# Altium footprint library mypcblib.PcbLib: 128 footprints (part 4 of 8)
Each footprint in its own frame and in the unit in brackets; x right, y up, seen from the top. Pads: shape width x height; smd on the part's side, far side on the other; paste and mask are expansions set on the pad; w line width, h text height; cw(c..) or ccw(c..) is an arc to the next point about the centre after c.
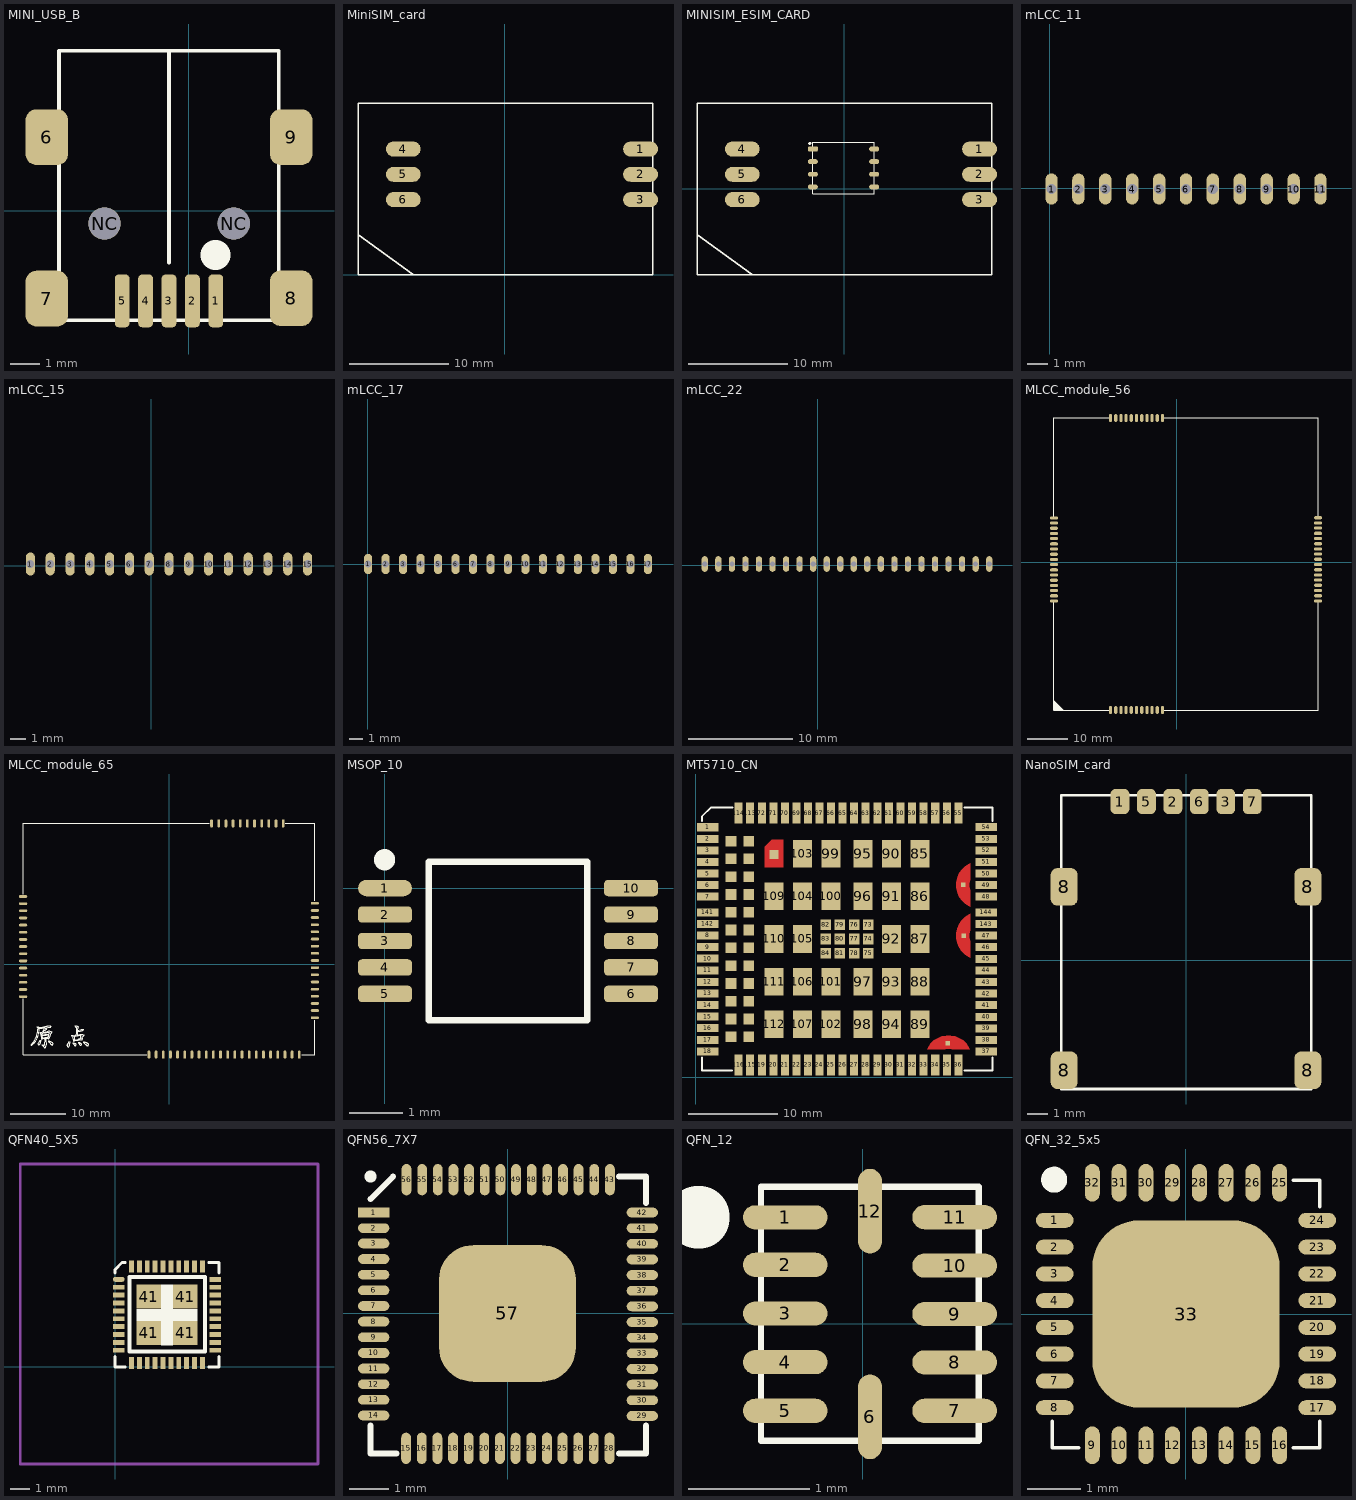
[diagram p3: the footprints below, top view; thin cyan lines are the x and y axes]

## MINI_USB_B [mm]
pads (11):
  rrect50% 0.5x1.8 smd: 1(0.92,-3.07) 2(0.12,-3.07) 3(-0.68,-3.07) 4(-1.48,-3.07) 5(-2.28,-3.07)
  rrect50% 1.45x1.9 smd: 6(-4.85,2.52) 7(-4.85,-2.99) 8(3.49,-2.98) 9(3.49,2.52)
  round 1.1 hole 1.1: NC(-2.88,-0.43) NC(1.53,-0.43)
Top Overlay:
  circle w1: c0.91,-1.5 r0.01
  circle w0.127: c-2.882,-0.431 r0.45
  circle w0.127: c1.518,-0.431 r0.45
  lines w0.127: -0.682,-1.77 -0.682,5.469 ; -4.432,-3.731 -4.432,5.469 3.068,5.469 3.068,-3.731 -4.432,-3.731
3D body "User Library-usb_mini_smd.STEP": height 4.14, standoff -0.95, extent -5.63,-3.71 4.27,5.49

## MiniSIM_card [mm]
pads (6):
  oval 3.5x1.5 smd: 1(13.652,12.636) 2(13.652,10.096) 3(13.652,7.556) 4(-10.16,12.636) 5(-10.16,10.096) 6(-10.16,7.556)
Top Overlay:
  lines w0.127: -14.707,4.052 -9.207,0.064 ; -14.707,0.025 14.893,0.025 14.893,17.225 -14.707,17.225 -14.707,0.025

## MINISIM_ESIM_CARD [mm]
pads (14):
  oval 1x0.5 smd: 1(2.98,4) 2(2.98,2.73) 3(2.98,1.46) 6(-3.17,1.46) NC(-3.17,0.19) NC(-3.17,2.73) NC(2.98,0.19)
  oval 3.5x1.5 smd: 1(13.56,3.991) 2(13.56,1.451) 3(13.56,-1.089) 4(-10.253,3.991) 5(-10.253,1.451) 6(-10.253,-1.089)
  rrect50% 1x0.5 smd: 4(-3.17,4)
Top Overlay:
  circle w0.127: c-3.48,4.56 r0.085
  lines w0.08: -3.17,-0.48 2.98,-0.48 2.98,4.67 -3.17,4.67 -3.17,-0.48
  lines w0.127: -14.8,-4.593 -9.3,-8.582 ; -14.8,-8.62 14.8,-8.62 14.8,8.58 -14.8,8.58 -14.8,-8.62

## mLCC_11 [mm]
pads (11):
  oval 0.6x1.5 hole 0.5: 1(0.09,-0.04) 2(1.39,-0.04) 3(2.69,-0.04) 4(3.99,-0.04) 5(5.29,-0.04) 6(6.59,-0.04) 7(7.89,-0.04) 8(9.19,-0.04) 9(10.49,-0.04) 10(11.79,-0.04) 11(13.09,-0.04)

## mLCC_15 [mm]
pads (15):
  oval 0.6x1.5 hole 0.5: 1(-7.94,0.11) 2(-6.64,0.11) 3(-5.34,0.11) 4(-4.04,0.11) 5(-2.74,0.11) 6(-1.44,0.11) 7(-0.14,0.11) 8(1.16,0.11) 9(2.46,0.11) 10(3.76,0.11) 11(5.06,0.11) 12(6.36,0.11) 13(7.66,0.11) 14(8.96,0.11) 15(10.26,0.11)

## mLCC_17 [mm]
pads (17):
  oval 0.6x1.5 hole 0.5: 1(0.01,0.02) 2(1.31,0.02) 3(2.61,0.02) 4(3.91,0.02) 5(5.21,0.02) 6(6.51,0.02) 7(7.81,0.02) 8(9.11,0.02) 9(10.41,0.02) 10(11.71,0.02) 11(13.01,0.02) 12(14.31,0.02) 13(15.61,0.02) 14(16.91,0.02) 15(18.21,0.02) 16(19.51,0.02) 17(20.81,0.02)

## mLCC_22 [mm]
pads (22):
  oval 0.6x1.5 hole 0.5: 1(-10.85,0.13) 2(-9.55,0.13) 3(-8.25,0.13) 4(-6.95,0.13) 5(-5.65,0.13) 6(-4.35,0.13) 7(-3.05,0.13) 8(-1.75,0.13) 9(-0.45,0.13) 10(0.85,0.13) 11(2.15,0.13) 12(3.45,0.13) 13(4.75,0.13) 14(6.05,0.13) 15(7.35,0.13) 16(8.65,0.13) 17(9.95,0.13) 18(11.25,0.13) 19(12.55,0.13) 20(13.85,0.13) 21(15.15,0.13) 22(16.45,0.13)

## MLCC_module_56 [mm]
pads (56):
  oval 0.8x2 smd: 1(-16.565,-36.976) 2(-15.265,-36.976) 3(-13.965,-36.976) 4(-12.665,-36.976) 5(-11.365,-36.976) 6(-10.065,-36.976) 7(-8.765,-36.976) 8(-7.465,-36.976) 9(-6.165,-36.976) 10(-4.865,-36.976) 11(-3.565,-36.976) 29(-3.565,36.049) 30(-4.865,36.049) 31(-6.165,36.049) 32(-7.465,36.049) 33(-8.765,36.049) 34(-10.065,36.049) 35(-11.365,36.049) 36(-12.665,36.049) 37(-13.965,36.049) 38(-15.265,36.049) 39(-16.565,36.049)
  oval 2x0.8 smd: 12(35.334,-9.694) 13(35.334,-8.394) 14(35.334,-7.094) 15(35.334,-5.794) 16(35.334,-4.494) 17(35.334,-3.194) 18(35.334,-1.894) 19(35.334,-0.594) 20(35.334,0.706) 21(35.334,2.006) 22(35.334,3.306) 23(35.334,4.606) 24(35.334,5.905) 25(35.334,7.205) 26(35.334,8.505) 27(35.334,9.805) 28(35.334,11.105) 40(-30.706,11.075) 41(-30.706,9.775) 42(-30.706,8.475) 43(-30.706,7.175) 44(-30.706,5.876) 45(-30.706,4.576) 46(-30.706,3.276) 47(-30.706,1.976) 48(-30.706,0.66) 49(-30.706,-0.624) 50(-30.706,-1.924) 51(-30.706,-3.224) 52(-30.706,-4.524) 53(-30.706,-5.824) 54(-30.706,-7.124) 55(-30.706,-8.424) 56(-30.706,-9.724)
Top Overlay:
  region: -30.706,-34.476 -30.706,-36.976 -28.206,-36.976
  lines w0.127: -30.706,-9.974 -30.706,-36.976 -16.815,-36.976 ; -30.706,11.325 -30.706,36.049 -16.815,36.049 ; -3.316,-36.976 35.334,-36.976 35.334,-9.944 ; -3.316,36.049 35.334,36.049 35.334,11.355

## MLCC_module_65 [mm]
pads (65):
  oval 0.5x1.5 smd: 1(-3.66,-16.4) 2(-2.36,-16.4) 3(-1.06,-16.4) 4(0.24,-16.4) 5(1.54,-16.4) 6(2.84,-16.4) 7(4.14,-16.4) 8(5.44,-16.4) 9(6.74,-16.4) 10(8.04,-16.4) 11(9.34,-16.4) 12(10.64,-16.4) 13(11.94,-16.4) 14(13.24,-16.4) 15(14.54,-16.4) 16(15.84,-16.4) 17(17.14,-16.4) 18(18.44,-16.4) 19(19.74,-16.4) 20(21.04,-16.4) 21(22.34,-16.4) 22(23.64,-16.4) 40(20.72,25.59) 41(19.42,25.59) 42(18.12,25.59) 43(16.82,25.59) 44(15.52,25.59) 45(14.22,25.59) 46(12.92,25.59) 47(11.62,25.59) 48(10.32,25.59) 49(9.02,25.59) 50(7.72,25.59)
  oval 1.5x0.5 smd: 23(26.48,-9.71) 24(26.48,-8.41) 25(26.48,-7.11) 26(26.48,-5.81) 27(26.48,-4.51) 28(26.48,-3.21) 29(26.48,-1.91) 30(26.48,-0.61) 31(26.48,0.69) 32(26.48,1.99) 33(26.48,3.29) 34(26.48,4.59) 35(26.48,5.89) 36(26.48,7.19) 37(26.48,8.49) 38(26.48,9.79) 39(26.48,11.09) 51(-26.51,12.32) 52(-26.51,11.02) 53(-26.51,9.72) 54(-26.51,8.42) 55(-26.51,7.12) 56(-26.51,5.82) 57(-26.51,4.52) 58(-26.51,3.22) 59(-26.51,1.92) 60(-26.51,0.62) 61(-26.51,-0.68) 62(-26.51,-1.98) 63(-26.51,-3.28) 64(-26.51,-4.58) 65(-26.51,-5.88)
Top Overlay:
  drawing of 965 lines, arcs and shapes, not listed

## MSOP_10 [mm]
pads (10):
  oval 1.02x0.31 smd mask+0.051: 1(0,0)
  rrect50% 1.02x0.31 smd mask+0.051: 2(0,-0.5) 3(0,-1) 4(0,-1.5) 5(0,-2) 6(4.65,-2) 7(4.65,-1.5) 8(4.65,-1) 9(4.65,-0.5) 10(4.65,0)
Top Overlay:
  circle w0.3: c-0.006,0.535 r0.05
  lines w0.127: 0.825,-2.5 3.825,-2.5 3.825,0.5 0.825,0.5 0.825,-2.5

## MT5710_CN [mm]
pads (147):
  rect 2.4x0.9 smd mask+0.127: 1(1.346,28.092) 2(1.346,26.795) 3(1.346,25.492) 4(1.346,24.189) 5(1.346,22.886) 6(1.346,21.583) 7(1.346,20.295) 8(1.346,15.926) 9(1.346,14.623) 10(1.346,13.32) 11(1.346,12.017) 12(1.346,10.714) 13(1.346,9.411) 14(1.346,8.108) 15(1.346,6.805) 16(1.346,5.502) 17(1.346,4.199) 18(1.346,2.896) 37(32.639,2.896) 38(32.639,4.184) 39(32.639,5.487) 40(32.639,6.79) 41(32.639,8.093) 42(32.639,9.396) 43(32.639,10.699) 44(32.639,12.002) 45(32.639,13.305) 46(32.639,14.608) 47(32.639,15.911) 48(32.664,20.295) 49(32.664,21.583) 50(32.664,22.886) 51(32.664,24.189) 52(32.664,25.492) 53(32.664,26.795) 54(32.664,28.098) 141(1.346,18.517) 142(1.346,17.229) 143(32.639,17.214) 144(32.639,18.517)
  rect 0.9x2.4 smd mask+0.127: 19(7.427,1.372) 20(8.73,1.372) 21(10.033,1.372) 22(11.336,1.372) 23(12.624,1.372) 24(13.894,1.372) 25(15.197,1.372) 26(16.5,1.372) 27(17.803,1.372) 28(19.106,1.372) 29(20.409,1.372) 30(21.712,1.372) 31(23.015,1.372) 32(24.318,1.372) 33(25.621,1.372) 34(26.924,1.372) 35(28.227,1.372) 36(29.515,1.372) 55(29.515,29.693) 56(28.227,29.693) 57(26.924,29.693) 58(25.621,29.693) 59(24.318,29.693) 60(23.015,29.693) 61(21.712,29.693) 62(20.409,29.693) 63(19.106,29.693) 64(17.803,29.693) 65(16.5,29.693) 66(15.197,29.693) 67(13.894,29.693) 68(12.624,29.693) 69(11.336,29.693) 70(10.033,29.693) 71(8.73,29.693) 72(7.427,29.693) 113(6.124,29.693) 114(4.821,29.693) 115(6.124,1.372) 116(4.821,1.372)
  rect 1.2x1.2 smd mask+0.076: 73(19.403,17.136) 74(19.403,15.536) 75(19.403,13.936) 76(17.803,17.136) 77(17.803,15.536) 78(17.803,13.936) 79(16.203,17.136) 80(16.203,15.536) 81(16.203,13.936) 82(14.603,17.136) 83(14.603,15.536) 84(14.603,13.936)
  rect 2.1x3.1 smd mask+0.127: 85(25.203,25.136) 86(25.203,20.336) 87(25.203,15.536) 88(25.203,10.736) 89(25.203,5.936) 90(22.003,25.136) 91(22.003,20.336) 92(22.003,15.536) 93(22.003,10.736) 94(22.003,5.936) 95(18.803,25.136) 96(18.803,20.336) 97(18.803,10.736) 98(18.803,5.936) 99(15.203,25.136) 100(15.203,20.336) 101(15.203,10.736) 102(15.203,5.936) 103(12.003,25.136) 104(12.003,20.336) 105(12.003,15.536) 106(12.003,10.736) 107(12.003,5.936) 109(8.803,20.336) 110(8.803,15.536) 111(8.803,10.736) 112(8.803,5.936)
  rect 1x1 smd mask+0.127: 108(8.814,25.044)
  rect 1.2x1.2 smd mask+0.127: 117(5.965,26.536) 118(5.965,24.536) 119(5.965,22.536) 120(5.965,20.536) 121(5.965,18.536) 122(5.965,16.536) 123(5.965,14.536) 124(5.965,12.536) 125(5.965,10.536) 126(5.965,8.536) 127(5.965,6.536) 128(5.965,4.536) 129(3.965,26.536) 130(3.965,24.536) 131(3.965,22.536) 132(3.965,20.536) 133(3.965,18.536) 134(3.965,16.536) 135(3.965,14.536) 136(3.965,12.536) 137(3.965,10.536) 138(3.965,8.536) 139(3.965,6.536) 140(3.965,4.536)
  rect 0.5x0.5 smd mask+0.127: 145(28.346,3.835) 145(30.074,21.641) 145(30.15,15.875)
Top Layer:
  region: 30.825,3.159 30.717,3.385 30.419,3.79 30.052,4.133 29.627,4.401 29.16,4.585 28.666,4.678 28.164,4.678 27.671,4.585 27.203,4.401 26.778,4.133 26.411,3.79 26.114,3.385 26.006,3.159 28.073,3.159 28.157,3.18 28.329,3.205 28.502,3.205 28.673,3.18 28.757,3.159
  region: 30.88,24.049 30.88,22.161 30.82,22.028 30.749,21.745 30.749,21.453 30.82,21.169 30.88,21.036 30.88,19.148 30.642,19.251 30.214,19.545 29.851,19.916 29.566,20.349 29.37,20.83 29.27,21.339 29.27,21.858 29.37,22.367 29.566,22.848 29.851,23.282 30.214,23.652 30.642,23.946
  region: 30.88,18.349 30.88,16.461 30.82,16.328 30.749,16.045 30.749,15.753 30.82,15.469 30.88,15.336 30.88,13.448 30.642,13.551 30.214,13.845 29.851,14.216 29.566,14.649 29.37,15.13 29.27,15.639 29.27,16.158 29.37,16.667 29.566,17.148 29.851,17.582 30.214,17.952 30.642,18.246
  region: 9.853,26.686 8.553,26.686 7.753,25.886 7.753,23.586 9.853,23.586
Top Overlay:
  lines w0.203: 0.711,2.21 0.711,0.737 4.115,0.737 ; 0.711,28.778 0.711,29.312 1.727,30.328 4.14,30.328 ; 30.201,30.328 33.35,30.328 33.35,28.804 ; 30.226,0.737 33.35,0.737 ; 33.35,2.21 33.35,0.737 ; 33.35,0.737 33.35,0.737
Top Paste:
  region: 30.825,3.159 30.717,3.385 30.419,3.79 30.052,4.133 29.627,4.401 29.16,4.585 28.666,4.678 28.164,4.678 27.671,4.585 27.203,4.401 26.778,4.133 26.411,3.79 26.114,3.385 26.006,3.159 28.073,3.159 28.157,3.18 28.329,3.205 28.502,3.205 28.673,3.18 28.757,3.159
  region: 30.88,18.349 30.88,16.461 30.82,16.328 30.749,16.045 30.749,15.753 30.82,15.469 30.88,15.336 30.88,13.448 30.642,13.551 30.214,13.845 29.851,14.216 29.566,14.649 29.37,15.13 29.27,15.639 29.27,16.158 29.37,16.667 29.566,17.148 29.851,17.582 30.214,17.952 30.642,18.246
  region: 30.88,24.049 30.88,22.161 30.82,22.028 30.749,21.745 30.749,21.453 30.82,21.169 30.88,21.036 30.88,19.148 30.642,19.251 30.214,19.545 29.851,19.916 29.566,20.349 29.37,20.83 29.27,21.339 29.27,21.858 29.37,22.367 29.566,22.848 29.851,23.282 30.214,23.652 30.642,23.946
  region: 9.853,26.686 8.553,26.686 7.753,25.886 7.753,23.586 9.853,23.586

## NanoSIM_card [mm]
pads (10):
  rrect50% 0.9x1.2 smd: 1(-3.176,7.614) 2(-0.636,7.614) 3(1.904,7.614) 5(-1.906,7.614) 6(0.634,7.614) 7(3.174,7.614)
  rrect50% 1.3x1.8 smd: 8(-5.856,-5.286) 8(-5.856,3.514) 8(5.844,-5.286) 8(5.844,3.514)
Top Overlay:
  lines w0.127: -6.001,-6.187 -6.001,7.913 5.998,7.913 5.998,-6.187 -6.001,-6.187

## QFN40_5X5 [mm]
pads (44):
  oval 0.6x0.25 smd mask+0.102: 1(0.177,4.427)
  rect 0.6x0.25 smd mask+0.102: 2(0.177,4.027) 3(0.177,3.627) 4(0.177,3.227) 5(0.177,2.827) 6(0.177,2.427) 7(0.177,2.027) 8(0.177,1.627) 9(0.177,1.227) 10(0.177,0.827) 21(5.077,0.827) 22(5.077,1.227) 23(5.077,1.627) 24(5.077,2.027) 25(5.077,2.427) 26(5.077,2.827) 27(5.077,3.227) 28(5.077,3.627) 29(5.077,4.027) 30(5.077,4.427)
  rect 0.25x0.6 smd mask+0.102: 11(0.827,0.177) 12(1.227,0.177) 13(1.627,0.177) 14(2.027,0.177) 15(2.427,0.177) 16(2.827,0.177) 17(3.227,0.177) 18(3.627,0.177) 19(4.027,0.177) 20(4.427,0.177) 31(4.427,5.077) 32(4.027,5.077) 33(3.627,5.077) 34(3.227,5.077) 35(2.827,5.077) 36(2.427,5.077) 37(2.027,5.077) 38(1.627,5.077) 39(1.227,5.077) 40(0.827,5.077)
  rect 1.233x1.233 smd mask+0: 41(1.702,1.702) 41(1.702,3.552) 41(3.552,1.702) 41(3.552,3.552)
Top Overlay:
  region: 2.921,4.166 2.921,2.921 4.166,2.921 4.166,2.337 2.921,2.337 2.921,1.092 2.337,1.092 2.337,2.337 1.092,2.337 1.092,2.921 2.337,2.921 2.337,4.166
  lines w0.15: -0.023,0.508 -0.023,-0.023 0.508,-0.023 ; -0.023,4.75 -0.023,4.905 0.349,5.277 0.508,5.277 ; 4.75,-0.023 5.277,-0.023 5.277,0.508 ; 4.75,5.277 5.277,5.277 5.277,4.75
  lines w0.203: 0.711,0.762 0.711,4.547 4.547,4.547 4.547,0.762 0.711,0.762
Mechanical 15:
  lines w0.152: -4.826,-4.953 -4.826,10.287 10.287,10.287 10.287,-4.953 -4.826,-4.953

## QFN56_7X7 [mm]
pads (57):
  rect 0.8x0.25 smd mask+0.038: 1(-3.43,2.58)
  oval 0.8x0.25 smd mask+0.038: 2(-3.43,2.18) 3(-3.43,1.79) 4(-3.43,1.39) 5(-3.43,0.99) 6(-3.43,0.59) 7(-3.43,0.19) 8(-3.43,-0.21) 9(-3.43,-0.61) 10(-3.43,-1.01) 11(-3.43,-1.41) 12(-3.43,-1.81) 13(-3.43,-2.21) 14(-3.43,-2.61) 29(3.44,-2.62) 30(3.44,-2.22) 31(3.44,-1.82) 32(3.44,-1.42) 33(3.44,-1.02) 34(3.44,-0.62) 35(3.44,-0.22) 36(3.44,0.18) 37(3.44,0.58) 38(3.44,0.98) 39(3.44,1.38) 40(3.44,1.78) 41(3.44,2.18) 42(3.44,2.58)
  oval 0.25x0.8 smd mask+0.038: 15(-2.6,-3.45) 16(-2.2,-3.45) 17(-1.8,-3.45) 18(-1.4,-3.45) 19(-1,-3.45) 20(-0.6,-3.45) 21(-0.2,-3.45) 22(0.2,-3.45) 23(0.6,-3.45) 24(1,-3.45) 25(1.4,-3.45) 26(1.8,-3.45) 27(2.2,-3.45) 28(2.6,-3.45) 43(2.61,3.42) 44(2.21,3.42) 45(1.81,3.42) 46(1.41,3.42) 47(1.01,3.42) 48(0.61,3.42) 49(0.21,3.42) 50(-0.19,3.42) 51(-0.59,3.42) 52(-0.99,3.42) 53(-1.39,3.42) 54(-1.79,3.42) 55(-2.19,3.42) 56(-2.59,3.42)
  rrect50% 3.5x3.5 smd mask+0.203: 57(-0.009,-0.001)
Top Overlay:
  circle w0.152: c-3.51,3.5 r0.078
  lines w0.152: -3.51,2.92 -2.93,3.5 ; -3.505,-2.87 -3.505,-3.58 -2.845,-3.58 ; 2.845,-3.58 3.531,-3.58 3.531,-2.87 ; 2.845,3.5 3.531,3.5 3.531,2.819

## QFN_12 [mm]
pads (12):
  oval 0.7x0.2 smd mask+0.051: 1(-0.64,0.879) 2(-0.64,0.487) 3(-0.64,0.084) 4(-0.64,-0.318) 5(-0.64,-0.72) 7(0.76,-0.72) 8(0.76,-0.32) 9(0.76,0.08) 10(0.76,0.48) 11(0.76,0.88)
  oval 0.2x0.7 smd mask+0.051: 6(0.06,-0.77) 12(0.06,0.93)
Top Overlay:
  circle w0.5: c-1.36,0.88 r0.01
  lines w0.05: -0.841,-0.968 -0.841,1.132 0.959,1.132 0.959,-0.968 -0.841,-0.968

## QFN_32_5x5 [mm]
pads (33):
  oval 0.7x0.28 smd mask+0.051: 1(-2.45,1.75) 2(-2.45,1.25) 3(-2.45,0.75) 4(-2.45,0.25) 5(-2.45,-0.25) 6(-2.45,-0.75) 7(-2.45,-1.25) 8(-2.45,-1.75) 17(2.45,-1.75) 18(2.45,-1.25) 19(2.45,-0.75) 20(2.45,-0.25) 21(2.45,0.25) 22(2.45,0.75) 23(2.45,1.25) 24(2.45,1.75)
  oval 0.28x0.7 smd mask+0.051: 9(-1.75,-2.45) 10(-1.25,-2.45) 11(-0.75,-2.45) 12(-0.25,-2.45) 13(0.25,-2.45) 14(0.75,-2.45) 15(1.25,-2.45) 16(1.75,-2.45) 25(1.75,2.45) 26(1.25,2.45) 27(0.75,2.45) 28(0.25,2.45) 29(-0.25,2.45) 30(-0.75,2.45) 31(-1.25,2.45) 32(-1.75,2.45)
  rrect50% 3.5x3.5 smd mask+0.127: 33(0,0)
Top Overlay:
  circle w0.3: c-2.462,2.507 r0.092
  lines w0.064: -2.5,-2 -2.5,-2.5 -2,-2.5 ; 2,-2.5 2.5,-2.5 2.5,-2 ; 2,2.5 2.5,2.5 2.5,2